# EAGLE library part GPS-GMR (library iStivi - GPS Modules)
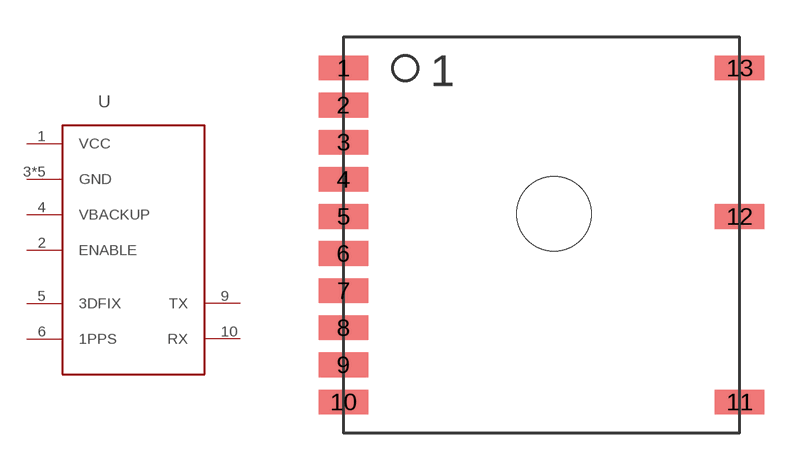
[diagram p0: symbol with the pads of GMS-HPR; footprint GMS-HPR]

Designator prefix -

## GPS-GMR  [GMS-HPR]
1  VCC  pwr
2  ENABLE
3  GND  pwr
4  VBACKUP
5  3DFIX  out
6  1PPS  out
8  GND  pwr
9  TX  out
10  RX  in
11  GND  pwr
12  GND  pwr
13  GND  pwr

## Footprint GMS-HPR (pad centres in mm)
GMS-HPR gps module footprint
smd 2 x 1: 1 -8,7.5; 2 -8,6; 3 -8,4.5; 4 -8,3; 5 -8,1.5; 6 -8,0; 7 -8,-1.5; 8 -8,-3; 9 -8,-4.5; 10 -8,-6; 11 8,-6; 12 8,1.5; 13 8,7.5
hole 3 at 0.5,1.6